# Altium footprint library PCB_Mechanical.PcbLib: 7 footprints
Each footprint in its own frame and in the unit in brackets; x right, y up, seen from the top. Pads: shape width x height; smd on the part's side, far side on the other; paste and mask are expansions set on the pad; w line width, h text height; cw(c..) or ccw(c..) is an arc to the next point about the centre after c.
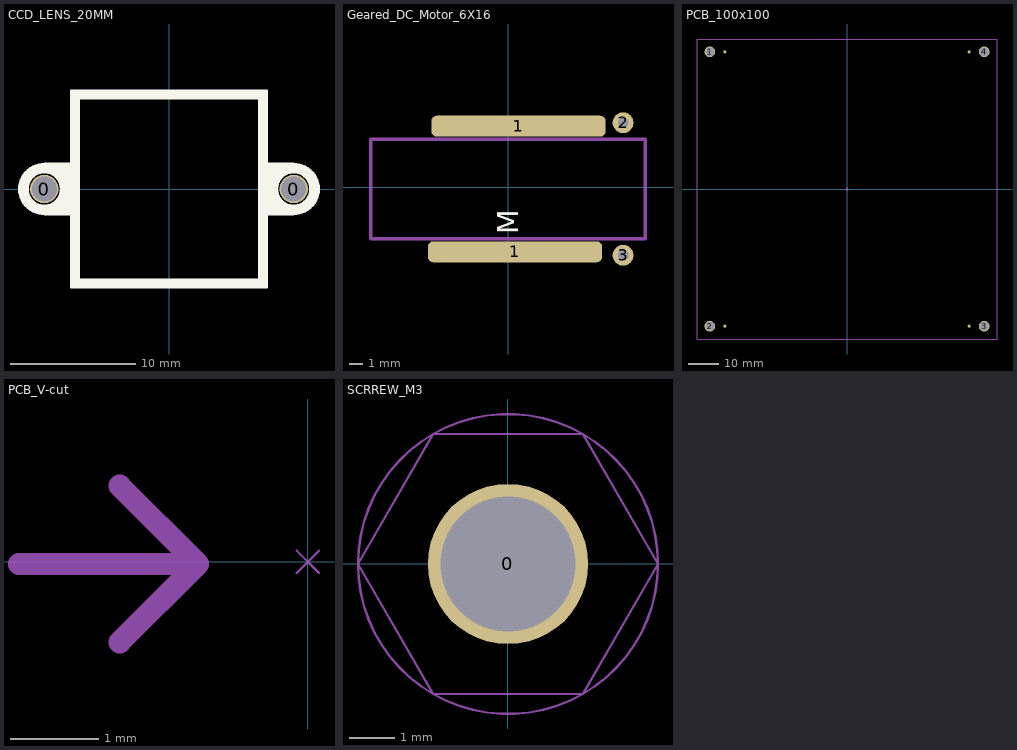
[diagram p0: the footprints below, top view; thin cyan lines are the x and y axes]

## 3D_SCRREW_M3_8 [mil]
3D body "User Library-M3x0_5xL Phillips Panhead Screw7mm.STEP": height 93.73, standoff -275.59, extent -110.23,-110.23 110.24,110.25

## CCD_LENS_20MM [mil]
pads (2):
  round 90 hole 78.74 mask+0: 0(-393.7,0) 0(393.7,0)
Top Overlay:
  circle w6: c-393.7,0 r52
  circle w6: c393.7,0 r52
  region: -310,312 310,312 310,-312 -310,-312 -310,312 -284,286 -284,-286 284,-286 284,286 -284,286
  region: 393.7,80 401.58,80 417.04,76.93 431.6,70.89 444.7,62.14 455.84,51 464.6,37.89 470.63,23.34 473.7,7.88 473.7,-7.88 470.63,-23.34 464.6,-37.89 455.84,-51 444.7,-62.14 431.6,-70.89 417.04,-76.93 401.58,-80 393.7,-80 393.7,-52 400.49,-51.56 413.6,-48.04 425.36,-41.25 434.96,-31.66 441.74,-19.9 445.26,-6.79 445.26,6.79 441.74,19.9 434.96,31.66 425.36,41.25 413.6,48.04 400.49,51.56 393.7,52
  region: 393.7,52 386.91,51.56 373.8,48.04 362.05,41.25 352.45,31.66 345.66,19.9 342.15,6.79 342.15,-6.79 345.66,-19.9 352.45,-31.66 362.05,-41.25 373.8,-48.04 386.91,-51.56 393.7,-52 393.7,-80 310,-80 310,80 393.7,80
  region: -393.7,-52 -386.91,-51.56 -373.8,-48.04 -362.05,-41.25 -352.45,-31.66 -345.66,-19.9 -342.15,-6.79 -342.15,6.79 -345.66,19.9 -352.45,31.66 -362.05,41.25 -373.8,48.04 -386.91,51.56 -393.7,52 -393.7,80 -310,80 -310,-80 -393.7,-80
  region: -393.7,-80 -401.58,-80 -417.04,-76.93 -431.6,-70.89 -444.7,-62.14 -455.84,-51 -464.6,-37.89 -470.63,-23.34 -473.7,-7.88 -473.7,7.88 -470.63,23.34 -464.6,37.89 -455.84,51 -444.7,62.14 -431.6,70.89 -417.04,76.93 -401.58,80 -393.7,80 -393.7,52 -400.49,51.56 -413.6,48.04 -425.36,41.25 -434.96,31.66 -441.74,19.9 -445.26,6.79 -445.26,-6.79 -441.74,-19.9 -434.96,-31.66 -425.36,-41.25 -413.6,-48.04 -400.49,-51.56 -393.7,-52
  lines w6: -393.7,-52 -393.7,-80 ; -393.7,52 -393.7,80 ; 393.7,-52 393.7,-80 ; 393.7,52 393.7,80 ; -393.7,-80 cw(c-393.7,0) -393.7,80 ; -393.7,-80 -310,-80 ; -393.7,80 -310,80 ; -310,-80 -310,-312 310,-312 310,-80 ; -310,-80 -310,80 ; -310,80 -310,312 310,312 310,80 ; 310,-80 393.7,-80 ; 310,-80 310,80 ; 310,80 393.7,80 ; 393.7,-80 ccw(c393.7,0) 393.7,80 ; 393.7,80 393.7,80 ; -284,-286 284,-286 284,286 -284,286 -284,-286

## Geared_DC_Motor_6X16 [mil] "Geared_DC_Motor_6X16"
height 236
pads (4):
  rrect50% 500x60 smd: 1(20,-185) 1(30,175)
  round 60 hole 30: 2(330,185) 3(330,-195)
Top Overlay:
  text "M" at 30,-135 h60
Mechanical 13:
  lines w10: -394,-148 394,-148 394,138 -394,138 -394,-148

## PCB_100x100 [mil]
pads (8):
  round 39.37 smd mask+39.37: 0(-1603.15,1800) 0(-1603.15,-1800) 0(1603.15,-1800) 0(1603.15,1800)
  round 140 hole 120 mask+0: 1(-1800,1800) 2(-1800,-1800) 3(1800,-1800) 4(1800,1800)
Mechanical 1:
  lines w1: -1968.5,-1968.5 -1968.5,1968.5 1968.5,1968.5 1968.5,-1968.5 -1968.5,-1968.5
B-Component:
  lines w2: -20,0 20,0 ; 0,-20 0,20

## PCB_V-cut [mil]
Mechanical 1:
  lines w1: -5,-5 5,5 ; -5,5 5,-5
  lines w10: -129.21,-0.98 -49.21,-0.98 ; -84.21,-35.98 -49.21,-0.98 ; -84.21,34.02 -49.21,-0.98
  text "V-Cut" at -414.21,-25.98 h60

## SCRREW_M3 [mil]
height 396
pads (1):
  round 140 hole 118 mask+0: 0(0,0)
Mechanical 13:
  circle w2: c0,0 r130.98
  lines w2: -130.98,0 -65.49,113.43 65.49,113.43 130.98,0 65.49,-113.43 -65.49,-113.43 -130.98,0
T-Component:
  circle w2: c0,0 r130.98

## Z_Bettery [mil]
3D body "User Library-CR2032_Holder.STEP": height 220.47, standoff 0, extent -633.86,-314.96 633.86,314.96